# EAGLE library part PINHEAD_1X14 (library pinhead)
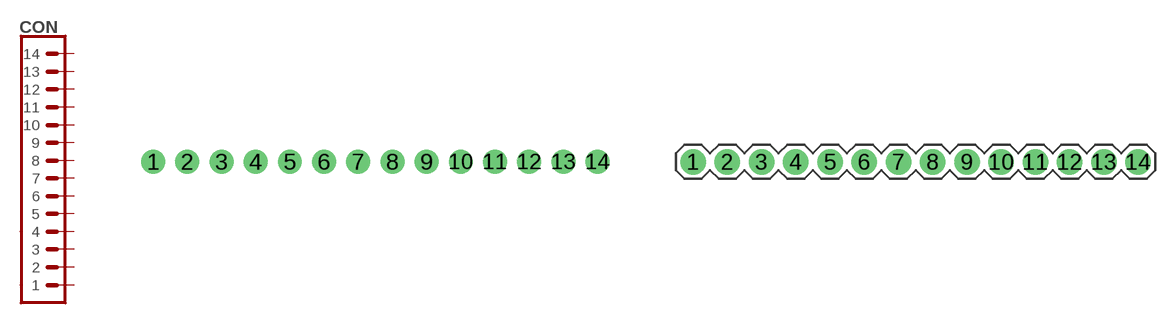
[diagram p11: symbol with the pads of PLS2-14; footprints PLS2-14, PLS14]

Designator prefix CON

## PINHEAD_1X14-2-STRAIGHT-MALE  [PLS2-14]
1  1  pas
2  2  pas
3  3  pas
4  4  pas
5  5  pas
6  6  pas
7  7  pas
8  8  pas
9  9  pas
10  10  pas
11  11  pas
12  12  pas
13  13  pas
14  14  pas

## PINHEAD_1X14-2.54-STRAIGHT-MALE  [PLS14]
Pads as for PLS2-14

## PINHEAD_1X14-2.54-STRAIGHT-FEMALE  [PBS14]
Pads as for PLS2-14

## Footprint PLS2-14 (pad centres in mm)
3D model <https://grabcad.com/library/pls2-connectors-1>
drill 0.8 pad 1.4: 1 -13,0; 2 -11,0; 3 -9,0; 4 -7,0; 5 -5,0; 6 -3,0; 7 -1,0; 8 1,0; 9 3,0; 10 5,0; 11 7,0; 12 9,0; 13 11,0; 14 13,0

## Footprint PLS14 (pad centres in mm)
3D model <https://grabcad.com/library/pls-connectors-1>
drill 1 pad 1.88: 1 -16.51,0; 2 -13.97,0; 3 -11.43,0; 4 -8.89,0; 5 -6.35,0; 6 -3.81,0; 7 -1.27,0; 8 1.27,0; 9 3.81,0; 10 6.35,0; 11 8.89,0; 12 11.43,0; 13 13.97,0; 14 16.51,0

## Footprint PBS14 (pad centres in mm)
3D model <https://grabcad.com/library/pbs-connectors-1>
drill 1 pad 1.7: 1 -16.51,0; 2 -13.97,0; 3 -11.43,0; 4 -8.89,0; 5 -6.35,0; 6 -3.81,0; 7 -1.27,0; 8 1.27,0; 9 3.81,0; 10 6.35,0; 11 8.89,0; 12 11.43,0; 13 13.97,0; 14 16.51,0